# Altium footprint library PcbLib.PcbLib: 36 footprints (part 3 of 3)
Each footprint in its own frame and in the unit in brackets; x right, y up, seen from the top. Pads: shape width x height; smd on the part's side, far side on the other; paste and mask are expansions set on the pad; w line width, h text height; cw(c..) or ccw(c..) is an arc to the next point about the centre after c.
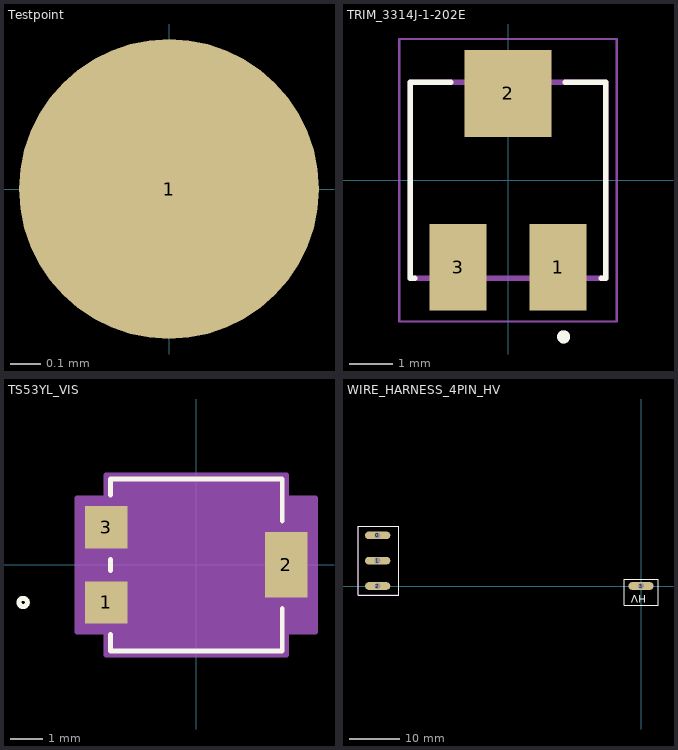
[diagram p2: the footprints below, top view; thin cyan lines are the x and y axes]

## Testpoint [mm]
pads (1):
  round 1 smd: 1(0,0)

## TRIM_3314J-1-202E [mm]
pads (3):
  rect 1.3x2 smd: 1(1.15,-2) 3(-1.15,-2)
  rect 2x2 smd: 2(0,2)
Top Overlay:
  circle w0.2: c1.28,-3.6 r0.05
  lines w0.127: -2.15,-2.25 -2.25,-2.25 -2.25,2.25 -1.315,2.25 ; 1.315,2.25 2.25,2.25 2.25,-2.25 2.15,-2.25
Top 3D Body:
  circle w0.2: c1.28,-3.6 r0.05
  lines w0.127: -2.25,-2.25 2.25,-2.25 2.25,2.25 -2.25,2.25 -2.25,-2.25
Top Courtyard:
  lines w0.05: -2.5,-3.25 2.5,-3.25 2.5,3.25 -2.5,3.25 -2.5,-3.25
3D body "3314J-1-202E.STEP": height 2.55, standoff 0, extent -2.5,-2.5 2.5,2.5

## TS53YL_VIS [mil]
pads (3):
  rect 51x51 smd paste+0 mask+0: 1(-108.27,-45.28) 3(-108.27,45.28)
  rect 51x79 smd paste-25.5 mask+0: 2(108.27,0)
Top Layer:
  region: 0,-39.5
  region: 0,39.5
Top Overlay:
  circle w6: c-208.54,-45.28 r5
  lines w6: -103.5,-83.88 -103.5,-103.5 103.5,-103.5 103.5,-52.6 ; -103.5,-6.68 -103.5,6.68 ; -103.5,83.88 -103.5,103.5 103.5,103.5 103.5,52.6
Top Solder:
  region: 0,-39.5
  region: 0,39.5
Top 3D Body:
  circle w0: c-82.77,-45.28 r3
  lines w0: -12,98.5 ccw(c0,98.5) 12,98.5
  lines w1: -98.5,-98.5 -98.5,98.5 98.5,98.5 98.5,-98.5 -98.5,-98.5
  text "RefDes2" at -87.5,-25 h50
Top Courtyard:
  region: -108.5,-80.78 -143.77,-80.78 -143.77,80.78 -108.5,80.78 -108.5,108.5 108.5,108.5 108.5,80.78 143.77,80.78 143.77,-80.78 108.5,-80.78 108.5,-108.5 -108.5,-108.5
  lines w6: -143.77,-80.78 -108.5,-80.78 -108.5,-108.5 108.5,-108.5 108.5,-80.78 143.77,-80.78 143.77,80.78 108.5,80.78 108.5,108.5 -108.5,108.5 -108.5,80.78 -143.77,80.78 -143.77,-80.78
3D body "TS53YLxxx.stp": height 104.91, standoff 0.18, extent -150.35,-137.76 150.62,134.42

## WIRE_HARNESS_4PIN_HV [mm]
pads (4):
  oval 5x1.5 hole 1.2: 0(-52,10) 1(-52,5) 2(-52,0) 3(0,0)
Top Overlay:
  lines w0.15: -55.88,-1.797 -55.88,11.765 -47.88,11.765 -47.88,-1.797 -55.88,-1.797 ; -3.289,-3.807 3.347,-3.807 3.347,1.366 -3.289,1.366 -3.289,-3.807
  text "HV" at 1.063,-1.835 h1.52
Top Assembly:
  lines w0.15: -55.88,-1.773 -55.88,11.765 -47.88,11.765 -47.88,-1.773 -55.88,-1.773